# Altium integrated library Ahristi_Library.IntLib: 312 symbols (part 2 of 3)
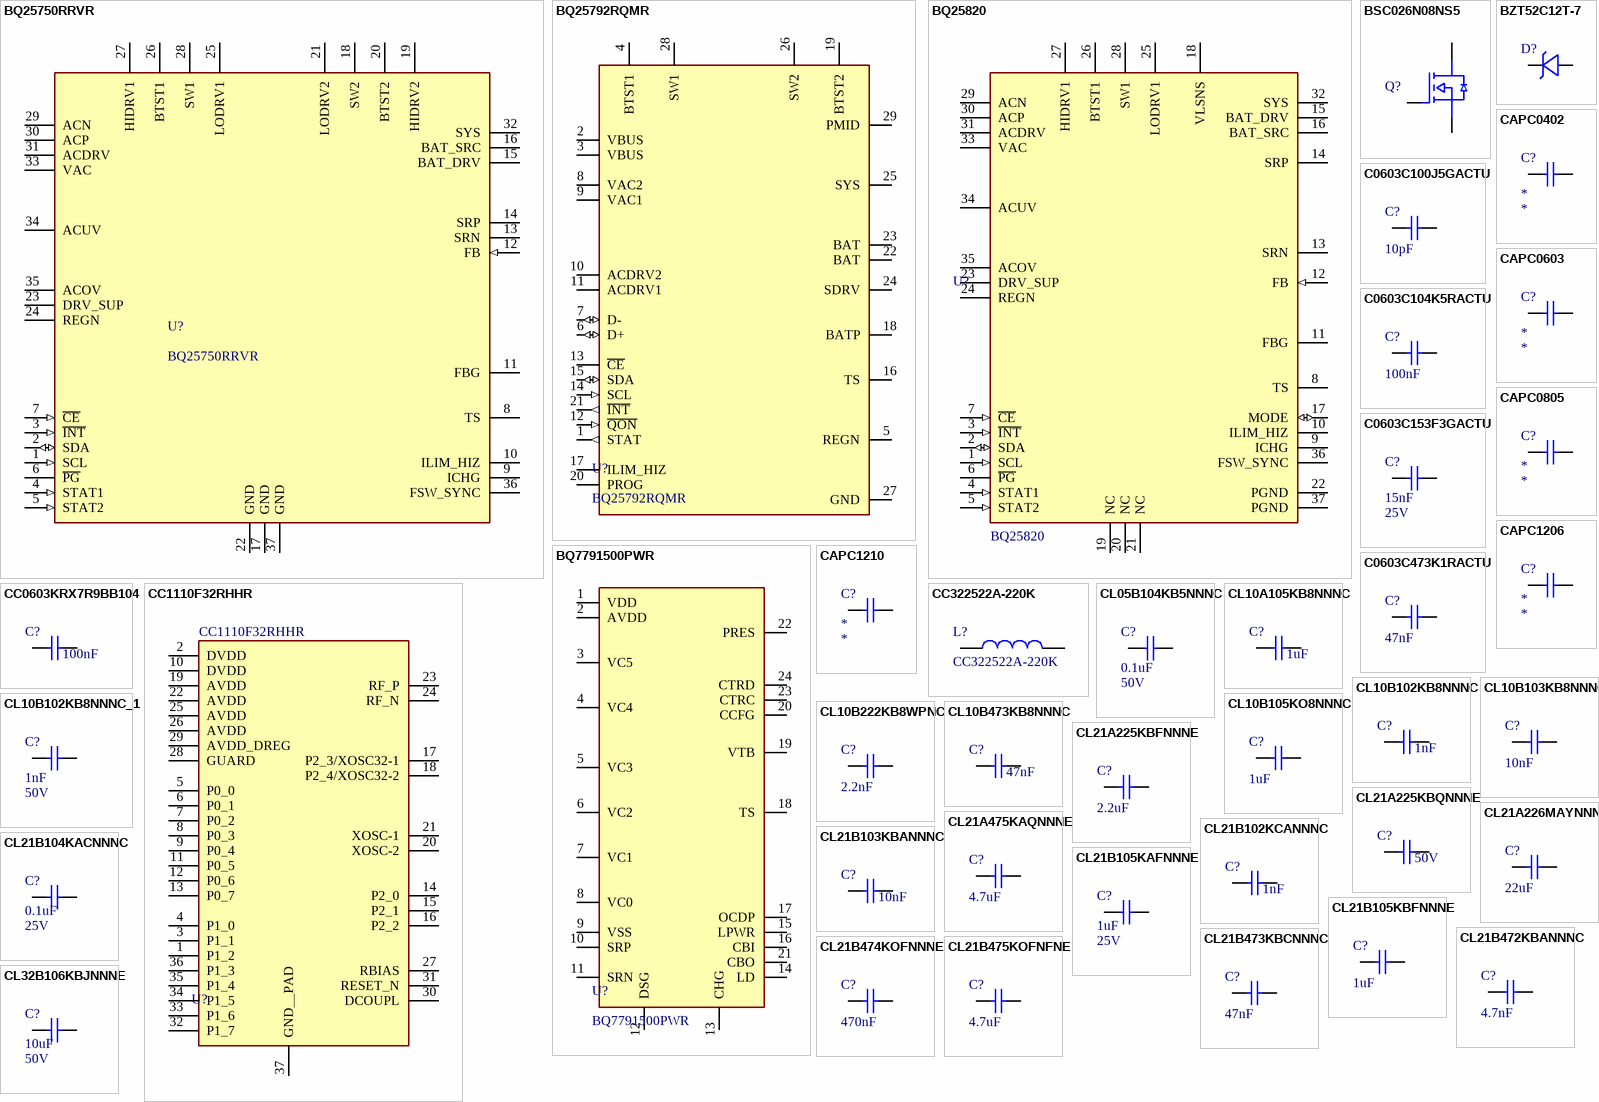
[diagram p9: symbols BQ25750RRVR to CL32B106KBJNNNE]

## CL21A226MAYNNNE
designator C?  Capacitance: 22uF  (hidden comment: CL21A226MAYNNNE)
22 µF ±20% 25V Ceramic Capacitor X5R 0805 (2012 Metric); Tolerance: 10%; Part Number: CL21A226MAYNNNE; Distributor Part Number: 1276-CL21A226MAYNNNECT-ND; Case Code: 0805; Distributor: Digikey; Voltage Rating: 25V
footprint CAPC0805X060 (Chip Capacitor, 2-Leads, Body 1.00x0.50mm, IPC Medium Density)
footprint CAPC0805X085 (Chip Resistor, 2-Leads, Body 2.00x1.25mm, IPC Medium Density)
footprint CAPC0805X125 (Chip Resistor, 2-Leads, Body 2.00x1.25mm, IPC Medium Density)
footprint CAPC0805X135 (Chip Capacitor, 2-Leads, Body 1.00x0.50mm, IPC Medium Density)
pins: 1, 2

## CL21A475KAQNNNE
designator C?  Capacitance: 4.7uF  (hidden comment: CL21A475KAQNNNE)
4.7 µF ±10% 25V Ceramic Capacitor X5R 0805 (2012 Metric); Part Number: CL21A475KAQNNNE; Distributor Part Number: 1276-1244-1-ND; Tolerance: 10%; Case Code: 0805; Distributor: Digikey; Voltage Rating: 25V
footprint CAPC0805X060 (Chip Capacitor, 2-Leads, Body 1.00x0.50mm, IPC Medium Density)
footprint CAPC0805X085 (Chip Resistor, 2-Leads, Body 2.00x1.25mm, IPC Medium Density)
footprint CAPC0805X125 (Chip Resistor, 2-Leads, Body 2.00x1.25mm, IPC Medium Density)
footprint CAPC0805X135 (Chip Capacitor, 2-Leads, Body 1.00x0.50mm, IPC Medium Density)
simulation model C_Capacitor_Default (Model Description)
pins: 1, 2

## CL21B102KCANNNC
designator C?  Capacitance: 1nF  (hidden comment: CL21B102KCANNNC)
1000 pF ±10% 100V Ceramic Capacitor X7R 0805 (2012 Metric); Voltage Rating: 25V; Part Number: CL21B102KCANNNC; Distributor Part Number: 1276-1169-1-ND; Tolerance: 10%; Case Code: 0805; Distributor: Digikey
footprint CAPC0805X060 (Chip Capacitor, 2-Leads, Body 1.00x0.50mm, IPC Medium Density)
footprint CAPC0805X085 (Chip Resistor, 2-Leads, Body 2.00x1.25mm, IPC Medium Density)
footprint CAPC0805X125 (Chip Resistor, 2-Leads, Body 2.00x1.25mm, IPC Medium Density)
footprint CAPC0805X135 (Chip Capacitor, 2-Leads, Body 1.00x0.50mm, IPC Medium Density)
pins: 1, 2

## CL21B103KBANNNC
designator C?  Capacitance: 10nF  (hidden comment: CL21B103KBANNNC)
10nF ±10% 50V Ceramic Capacitor X7R 0805 (2012 Metric); Voltage Rating: 25V; Part Number: CL21B103KBANNNC; Distributor Part Number: 1276-1015-1-ND; Tolerance: 10%; Case Code: 0805; Distributor: Digikey
footprint CAPC0805X060 (Chip Capacitor, 2-Leads, Body 1.00x0.50mm, IPC Medium Density)
footprint CAPC0805X085 (Chip Resistor, 2-Leads, Body 2.00x1.25mm, IPC Medium Density)
footprint CAPC0805X125 (Chip Resistor, 2-Leads, Body 2.00x1.25mm, IPC Medium Density)
footprint CAPC0805X135 (Chip Capacitor, 2-Leads, Body 1.00x0.50mm, IPC Medium Density)
pins: 1, 2

## CL21B104KACNNNC
designator C?  Voltage Rating: 25V  Capacitance: 0.1uF  (hidden comment: CL21B104KACNNNC)
0.1uF ±10% 25V Ceramic Capacitor X7R 0805 (2012 Metric); Part Number: CL21B104KACNNNC; Distributor Part Number: 1276-1099-1-ND; Tolerance: 10%; Case Code: 0805; Distributor: Digikey
footprint CAPC0805X060 (Chip Capacitor, 2-Leads, Body 1.00x0.50mm, IPC Medium Density)
footprint CAPC0805X085 (Chip Resistor, 2-Leads, Body 2.00x1.25mm, IPC Medium Density)
footprint CAPC0805X125 (Chip Resistor, 2-Leads, Body 2.00x1.25mm, IPC Medium Density)
footprint CAPC0805X135 (Chip Capacitor, 2-Leads, Body 1.00x0.50mm, IPC Medium Density)
pins: 1, 2

## CL21B105KAFNNNE
designator C?  Voltage Rating: 25V  Capacitance: 1uF  (hidden comment: CL21B105KAFNNNE)
1uF ±10% 25V Ceramic Capacitor X7R 0805 (2012 Metric); Part Number: CL21B105KAFNNNE; Distributor Part Number: 1276-1066-1-ND; Tolerance: 10%; Case Code: 0805; Distributor: Digikey
footprint CAPC0805X060 (Chip Capacitor, 2-Leads, Body 1.00x0.50mm, IPC Medium Density)
footprint CAPC0805X085 (Chip Resistor, 2-Leads, Body 2.00x1.25mm, IPC Medium Density)
footprint CAPC0805X125 (Chip Resistor, 2-Leads, Body 2.00x1.25mm, IPC Medium Density)
footprint CAPC0805X135 (Chip Capacitor, 2-Leads, Body 1.00x0.50mm, IPC Medium Density)
pins: 1, 2

## CL21B105KBFNNNE
designator C?  Capacitance: 1uF  (hidden comment: CL21B105KBFNNNE)
1uF 50V X7R ±10% 0805 Multilayer Ceramic Capacitors MLCC - SMD/SMT ROHS; Part Number: CL21B105KBFNNNE; Distributor Part Number: 1276-1029-1-ND; Tolerance: 10%; Case Code: 0805; Distributor: Digikey; Voltage Rating: 50V
footprint CAPC0805X060 (Chip Capacitor, 2-Leads, Body 1.00x0.50mm, IPC Medium Density)
footprint CAPC0805X085 (Chip Resistor, 2-Leads, Body 2.00x1.25mm, IPC Medium Density)
footprint CAPC0805X125 (Chip Resistor, 2-Leads, Body 2.00x1.25mm, IPC Medium Density)
footprint CAPC0805X135 (Chip Capacitor, 2-Leads, Body 1.00x0.50mm, IPC Medium Density)
pins: 1, 2

## CL21B472KBANNNC
designator C?, comment Capacitance: 4.7nF  (hidden comment: CL21B105KAFNNNE)
4.7nF ±10% 50V Ceramic Capacitor X7R 0805 (2012 Metric); Part Number: CL21B472KBANNNC; Voltage Rating: 25V; Distributor Part Number: 1276-1155-1-ND; Tolerance: 10%; Case Code: 0805; Distributor: Digikey
footprint CAPC0805X060 (Chip Capacitor, 2-Leads, Body 1.00x0.50mm, IPC Medium Density)
footprint CAPC0805X085 (Chip Resistor, 2-Leads, Body 2.00x1.25mm, IPC Medium Density)
footprint CAPC0805X125 (Chip Resistor, 2-Leads, Body 2.00x1.25mm, IPC Medium Density)
footprint CAPC0805X135 (Chip Capacitor, 2-Leads, Body 1.00x0.50mm, IPC Medium Density)
pins: 1, 2

## CL21B473KBCNNNC
designator C?  Capacitance: 47nF  (hidden comment: CL21B473KBCNNNC)
0.047 µF ±10% 50V Ceramic Capacitor X7R 0805 (2012 Metric); Voltage Rating: 25V; Part Number: CL21B473KBCNNNC; Distributor Part Number: 1276-1250-1-ND; Tolerance: 10%; Case Code: 0805; Distributor: Digikey
footprint CAPC0805X060 (Chip Capacitor, 2-Leads, Body 1.00x0.50mm, IPC Medium Density)
footprint CAPC0805X085 (Chip Resistor, 2-Leads, Body 2.00x1.25mm, IPC Medium Density)
footprint CAPC0805X125 (Chip Resistor, 2-Leads, Body 2.00x1.25mm, IPC Medium Density)
footprint CAPC0805X135 (Chip Capacitor, 2-Leads, Body 1.00x0.50mm, IPC Medium Density)
pins: 1, 2

## CL21B474KOFNNNE
designator C?  Capacitance: 470nF  (hidden comment: CL21B474KOFNNNE)
0.47 µF ±10% 16V Ceramic Capacitor X7R 0805 (2012 Metric); Voltage Rating: 25V; Part Number: CL21B474KOFNNNE; Distributor Part Number: 1276-1199-1-ND; Tolerance: 10%; Case Code: 0805; Distributor: Digikey
footprint CAPC0805X060 (Chip Capacitor, 2-Leads, Body 1.00x0.50mm, IPC Medium Density)
footprint CAPC0805X085 (Chip Resistor, 2-Leads, Body 2.00x1.25mm, IPC Medium Density)
footprint CAPC0805X125 (Chip Resistor, 2-Leads, Body 2.00x1.25mm, IPC Medium Density)
footprint CAPC0805X135 (Chip Capacitor, 2-Leads, Body 1.00x0.50mm, IPC Medium Density)
pins: 1, 2

## CL21B475KOFNFNE
designator C?  Capacitance: 4.7uF  (hidden comment: CL21B475KOFNFNE)
4.7 µF ±10% 16V Ceramic Capacitor X7R 0805 (2012 Metric); Part Number: CL21B475KOFNFNE; Distributor Part Number: 1276-2970-1-ND; Tolerance: 10%; Case Code: 0805; Distributor: Digikey; Voltage Rating: 16V
footprint CAPC0805X060 (Chip Capacitor, 2-Leads, Body 1.00x0.50mm, IPC Medium Density)
footprint CAPC0805X085 (Chip Resistor, 2-Leads, Body 2.00x1.25mm, IPC Medium Density)
footprint CAPC0805X125 (Chip Resistor, 2-Leads, Body 2.00x1.25mm, IPC Medium Density)
footprint CAPC0805X135 (Chip Capacitor, 2-Leads, Body 1.00x0.50mm, IPC Medium Density)
pins: 1, 2

## CL32B106KBJNNNE
designator C?  Voltage Rating: 50V  Capacitance: 10uF  (hidden comment: CL32B106KBJNNNE)
10 µF ±10% 50V Ceramic Capacitor X7R 1210 (3225 Metric); Manufacturer Part Number: CL32B106KBJNNNE; Distributor Part Number: 1276-3387-1-ND; Tolerance: 10%; Case Code: 1210; Distributor: Digikey
footprint CAPC1210X090 (1210 Ceramic Capacitor)
footprint CAPC1210X115 (1210 Ceramic Capacitor)
footprint CAPC1210X140 (1210 Ceramic Capacitor)
footprint CAPC1210X170 (1210 Ceramic Capacitor)
footprint CAPC1210X190 (1210 Ceramic Capacitor)
pins: 1, 2

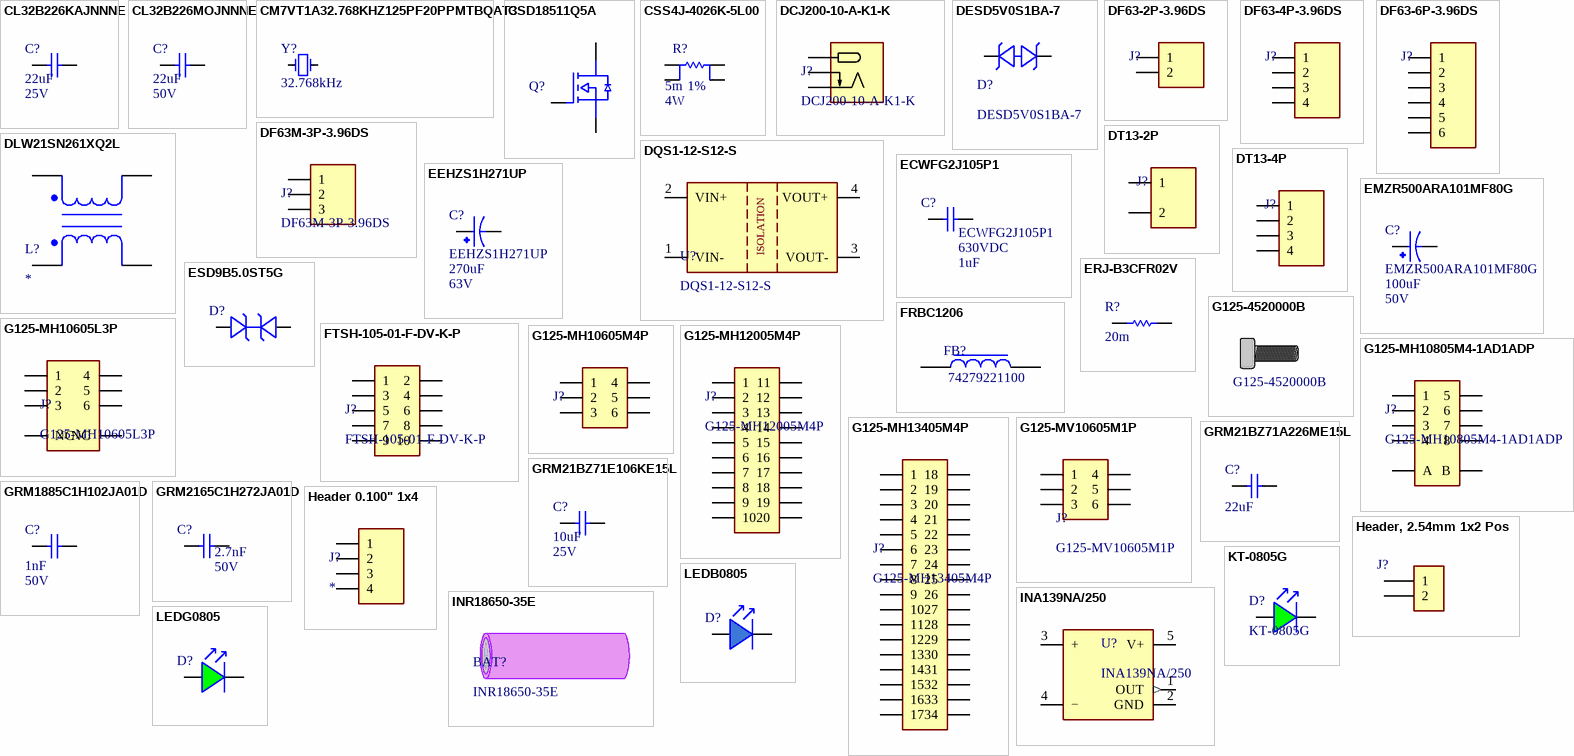
[diagram p3: symbols CL32B226KAJNNNE to LEDG0805]

## CL32B226KAJNNNE
designator C?  Voltage Rating: 25V  Capacitance: 22uF  (hidden comment: CL32B226KAJNNNE)
22 µF ±10% 25V Ceramic Capacitor X7R 1210 (3225 Metric); Part Number: CL32B226KAJNNNE; Distributor Part Number: 1276-3392-1-ND; Tolerance: 10%; Case Code: 1210; Distributor: Digikey
footprint CAPC1210X090 (1210 Ceramic Capacitor)
footprint CAPC1210X115 (1210 Ceramic Capacitor)
footprint CAPC1210X140 (1210 Ceramic Capacitor)
footprint CAPC1210X170 (1210 Ceramic Capacitor)
footprint CAPC1210X190 (1210 Ceramic Capacitor)
pins: 1, 2

## CL32B226MOJNNNE
designator C?  Voltage Rating: 50V  Capacitance: 22uF  (hidden comment: CL32B226MOJNNNE)
22 µF ±20% 16V Ceramic Capacitor X7R 1210 (3225 Metric); Tolerance: 10%; Part Number: CL32B226MOJNNNE; Distributor Part Number: 1276-3395-1-ND; Case Code: 1210; Distributor: Digikey
footprint CAPC1210X090 (1210 Ceramic Capacitor)
footprint CAPC1210X115 (1210 Ceramic Capacitor)
footprint CAPC1210X140 (1210 Ceramic Capacitor)
footprint CAPC1210X170 (1210 Ceramic Capacitor)
footprint CAPC1210X190 (1210 Ceramic Capacitor)
pins: 1, 2

## CM7VT1A32.768KHZ125PF20PPMTBQAT3
designator Y?  Frequency: 32.768kHz  (hidden comment: CM7VT1A32.768KHZ125PF20PPMTBQAT3)
CRYSTAL 32.7680KHZ 12.5PF SMD; Qualification: AEC-Q200; ESR: 70kohm; Part Number: CM7VT1A32.768KHZ125PF20PPMTBQAT3; Distributor Part Number: 2195-CM7VT1A32.768KHZ125PF20PPMTBQAT3CT-ND; Distributor: Digikey; Operating Temperature: -40°C ~ 125°C; Load Capacitance: 12.5pF
footprint CM7VT1A32.768KHZ125PF20PPMTBQAT3 (SMD-2 Crystal)
pins: 1 OSC1, 2 OSC2

## CSD18511Q5A
designator Q?  (value not drawn)
40-V, N channel NexFET™ power MOSFET, single SON 5 mm x 6 mm, 2.3 mOhm; Vgs (Max): 20; Vds (Max): 40V; Qg: 63nC; Qgd: 11.2nC; Vth: 1.8; Id: 27A; Power Dissipation (Max): 104W; Continuous Drain Current @ 25C: 159A; Part Number: CSD18511Q5A; Distributor Part Number: 296-48119-1-ND; Operating Temperature: -55°C ~ 150°C
footprint CSD18511Q5A (40-V, N channel NexFET™ power MOSFET, single SON 5 mm x 6 mm, 2.3 mOhm)
pins: 1 G, 2 D, 3 S

## CSS4J-4026K-5L00
designator R?  Resistance: 5m  Power Dissipation: 4W  Tolerance: 1%  (hidden comment: *)
5 mOhms ±1% 3W Chip Resistor Nonstandard Automotive AEC-Q200, Current Sense Metal Element; Manufacturer Part Number: CSS4J-4026K-5L00; Distributor Part Number: *
footprint CSS4J-4026K-5L00 (5 mOhms ±1% 3W Chip Resistor Nonstandard Automotive AEC-Q200, Current Sense Metal Element)
pins: I1, I2, S1, S2

## DCJ200-10-A-K1-K
designator J?
Power Barrel Connector Jack 2.05mm ID (0.081"), 5.50mm OD (0.217") Through Hole, Right Angle; Voltage Rating: 20VDC; Current Ratnig: 5A; Part Number: DCJ200-10-A-K1-K; Distributor: Digikey; Distributor Part Number: 2073-DCJ200-10-A-K1-K-ND; Operating Temperature: -20°C ~ 70°C
footprint DCJ200-10-A-K1-K (Power Barrel Connector Jack 2.05mm ID (0.081"), 5.50mm OD (0.217") Through Hole, Right Angle)
pins: 1 V+, 2 V-, 3 V-

## DESD5V0S1BA-7
designator D?
Diode TVS 5V Reverse Standoff 14V Clamp SOD323; Capacitance @ 1MHz: 35pF; Part Number: DESD5V0S1BA-7; Distributor: *; Distributor Part Number: *; Operating Temperature: -65C ~ 150C
footprint DESD5V0S1BA (DESD5V0S1BA SOD323)
pins: 1, 2

## DF63-2P-3.96DS
designator J?
Connector through hole, right angle 2 position 3.96mm,; Manufacturer Part Number: DF63-2P-3.96DS; Manufacutrer: Hirose; Voltage Rating: 630V; Number of Positions: 2; Pin Current Rating: 15A; Operating Temperature: -50°C~105°C
footprint DF63-2P-3.96DS (Conn Wire to Board HDR 4 POS 3.96mm Solder RA Thru-Hole 2 Terminal 1 Port Bag)
pins: 1, 2

## DF63-4P-3.96DS
designator J?
Connector through hole, right angle 4 position 3.96mm,; Manufacturer Part Number: DF63-4P-3.96DS; Manufacutrer: Hirose; Voltage Rating: 630V; Number of Positions: 4; Pin Current Rating: 15A; Operating Temperature: -50°C~105°C
footprint DF63-4P-3.96DS (Conn Wire to Board HDR 4 POS 3.96mm Solder RA Thru-Hole 4 Terminal 1 Port Bag)
pins: 1, 2, 3, 4

## DF63-6P-3.96DS
designator J?
Connector through hole, right angle 6 position 3.96mm,; Manufacturer Part Number: DF63-6P-3.96DS; Manufacutrer: Hirose; Voltage Rating: 630V; Number of Positions: 6; Pin Current Rating: 15A; Operating Temperature: -50°C~105°C
footprint DF63-6P-3.96DS (Connector Header Through Hole, Right Angle 6 position 0.156" (3.96mm))
pins: 1, 2, 3, 4, 5, 6

## DF63M-3P-3.96DS
designator J?
Connector Header Through Hole, Right Angle 3 position 0.156" (3.96mm); Number of Positions: 3; Current Rating: 12A; Voltage Rating: 630V; Part Number: DF63M-3P-3.96DS; Number of Rows: 1
footprint DF63M-3P-3.96DS (Connector Header Through Hole, Right Angle 3 position 0.156" (3.96mm))
pins: 1, 2, 3

## DLW21SN261XQ2L
designator L?
Part Number: DLW21SN261XQ2L; Distributor: Digikey; Distributor Part Number: *
footprint DLW21SN261XQ2L (Common Mode Chokes / Filters 260 OHM 25%)
pins: 1, 2, 3, 4

## DQS1-12-S12-S
designator U?
12 Vdc, 0.084 A, 1 W, 12 Vdc Input Range; Voltage - Input (Min): 10.8V; Voltage - Input (Max): 13.2; Voltage - Output 1: 12V; Power (W): 1W; Isolation Voltage: 1kV; Part Number: DQS1-12-S12-S; ComponentLink1Description: Datasheet; ComponentLink1URL: https://www.belfuse.com/media/datasheets/products/power-supplies/DQS1-S.pdf
footprint DQS1-12-S12-S (DC-DC ISOLATED, 1W, 10.8~13.2 VD)
pins: 1 VIN-, 2 VIN+, 3 VOUT-, 4 VOUT+
text: ISOLATION

## DT13-2P
designator J?
PCB Header, Vertical, PCB Mount Header, Contacts 2, Gray, Nickel, DT Series | TE Connectivity DT13-2P; Rows: 1; Positions: 2; Max Current: 13A; Manufacturer Part Number: DT13-2P; Distributor Part Number: *
footprint DT13-2P
pins: 1, 2

## DT13-4P
designator J?
DT13 Series 4.44mm Pitch 4 Way 2 Row Right Angle PCB Header Solder Termination | TE Connectivity DT13-4P; Rows: 2; Positions: 4; Max Current: 13A; Manufacturer Part Number: DT13-4P; Distributor Part Number: *
footprint DT13-4P (DT13 Series 4.44mm Pitch 4 Way 2 Row Right Angle PCB Header Solder Termination)
pins: 1, 2, 3, 4

## ECWFG2J105P1
designator C?  Capacitance: 1uF  Voltage Rating: 630VDC  Manufacturer Part Number: ECWFG2J105P1
Film Capacitors 630VDC 1.0uF 5% ST LEAD AEC-Q200; Distributor Part Number: *; Tolerance: 5%; Qualification: AEC-Q200
footprint ECWFG2J105P1 (1F Film Capacitor 141V 630V Polypropylene (PP), Metallized Radial)
pins: 1, 2

## EEHZS1H271UP
designator C?  Voltage Rating: 63V  Capacitance: 270uF  Manufacturer Part Number: EEHZS1H271UP
270 µF 50 V Aluminum - Polymer Capacitors Radial, Can - SMD 13mOhm 4000 Hrs @ 125°C
footprint EEHZS1H271UP (270 µF 50 V Aluminum - Polymer Capacitors Radial, Can - SMD 13mOhm 4000 Hrs @ 125°C)
pins: 1, 2

## EMZR500ARA101MF80G
designator C?  Voltage Rating: 50V  Capacitance: 100uF  (hidden comment: EMZR500ARA101MF80G)
100 µF 50 V Aluminum Electrolytic Capacitors Radial, Can - SMD 340mOhm @ 100kHz 2000 Hrs @ 105°C; Distributor: Digikey; Distributor Part Number: 565-EMZR500ARA101MF80GCT-ND; Manufacturer Part Number: EMZR500ARA101MF80G
footprint EMZR500ARA101MF80G (6.6mm Radial Capacitor)
pins: 1, 2

## ERJ-B3CFR02V
designator R?  Resistance: 20m
Res Thick Film 0508 20m Ohm 1% 1/2W 0ppm/°C to 300ppm/°C Molded SMD Punched Paper T/R; Manufacturer Part Number: ERJ-B3CFR02V; Power Rating: 500mW; Tolerance: 1%; Package: 0508
footprint RESC0508REVERSED
pins: 1, 2

## ESD9B5.0ST5G
designator D?  (value not drawn)
TVS Diode 5VWM 1A, 12.5V@1A Ipp; Voltage - Reverse Standoff (Max): 5V; Voltage - Breakdown: 5.8V; Part Number: ESD9B5.0ST5G; Distributor: Digikey; Distributor part Number: ESD9B5.0ST5G; Operating Temperature: -55°C ~ 150°C (TJ)
footprint sod-923 (SOD-923 Onsemi Footprint)
pins: 1, 2

## FRBC1206
designator FB?  Manufacturer Part Number: 74279221100  (hidden comment: *)
Ferrite Bead 1206 (3216 Metric); Distributor Part Number: *
footprint FRBC1206
pins: 1, 2

## FTSH-105-01-F-DV-K-P
designator J?
Connector Header Surface Mount 10 position 0.050" (1.27mm); Number of Positions: 10; Current Rating: 3.4A; Part Number: FTSH-105-01-F-DV-K-P; Distributor: Digikey; Distributor Part Number: SAM8797-ND; Number of Rows: 2; Operating Temperature: -55°C ~ 125°C
footprint FTSH-105-01-F-DV-K-P-TR (0.050" Surface Mount Header)
pins: 1, 2, 3, 4, 5, 6, 7, 8, 9, 10

## G125-4520000B
designator MECH?
Harwin Gecko M2 board mount Screw-Lok Bolt; Part Number: G125-4520000B; Distributor: Digikey; Distributor Part Number: 952-G125-4520000B-ND
footprint G125-4520000B (M2 Bolt Gecko Screwlok)

## G125-MH10605L3P
designator J?
Connector Header Through Hole 6 Position 1.25mm Latch Lock; Current Rating: 2A; Voltage Rating: 250V; Number of Positions: 6; Part Number: G125-MH10605L3P; Distributor: *; Distributor Part Number: *; Operating Temperature: -65°C ~ 150°C; Number of Rows: 2
footprint G125-MH10605L3P (Harwin Gecko 6 Pin Right Angle Latch)
pins: 1, 2, 3, 4, 5, 6, NC1 NC, NC2 NC

## G125-MH10605M4P
designator J?  (value not drawn)
Connector Header Through Hole, Right Angle 6 position 0.049" (1.25mm); Manufacturer: Harwin; Temperature Rating: -65°C ~ 150°C; Current Rating: 2A; Voltage Rating: 450V; Number of Positions: 6; Part number: G125-MH10605M4P; Distributor Part Number: 952-G125-MH10605M4P-ND; Distributor: Digikey; Number of Rows: 2
footprint G125-MH10605M4P
pins: 1, 2, 3, 4, 5, 6

## G125-MH10805M4-1AD1ADP
designator J?
Connector Header Through Hole, Right Angle 10 (8 + 2 Power) position 0.049" (1.25mm); Voltage Rating: 450V; Current Rating (Power): 10A; Current Rating (Signal): 2A; Number of Positions (Signal): 8; Part Number: G125-MH10805M4-1AD1ADP; Distributor: Digikey; Distributor Part Number: 952-G125-MH10805M4-1AD1ADP-ND; Operating Temperature: -65°C ~ 150°C; Number of Positions (Power): 2A
footprint G125-MH10805M4-1AD1ADP (Harwin Gecko 8 Signal 2 P{ower)
pins: 1, 2, 3, 4, 5, 6, 7, 8, A, B

## G125-MH12005M4P
designator J?
Connector Header Through Hole, Right Angle 20 position 0.049" (1.25mm); Manufacturer: Harwin; Number of Positions: 20; Voltage Rating: 450V; Current Rating: 2A; Part Number: G125-MH12005M4P; Distributor: Digikey; Distributor Part Number: 952-G125-MH12005M4P-ND; Number of Rows: 2; Operating Temperature: -65°C ~ 150°C
footprint G125-MH12005M4P (Harwin Gecko 20pin Right Angle)
pins: 1, 2, 3, 4, 5, 6, 7, 8, 9, 10, 11, 12, 13, 14, 15, 16, 17, 18, 19, 20

## G125-MH13405M4P
designator J?
Connector Header Through Hole, Right Angle 34 position 0.049" (1.25mm); Voltage Rating: 450V; Current Rating: 2A; Number of Positions: 34; Part Number: G125-MH13405M4P; Distributor: *; Distributor Part Number: *; Operating Temperature: -65°C ~ 150°C; Number of Rows: 2
footprint G125-MH13405M4P (Harwin Gecko 34pin Right Angle)
pins: 1, 2, 3, 4, 5, 6, 7, 8, 9, 10, 11, 12, 13, 14, 15, 16, 17, 18, 19, 20, 21, 22, 23, 24, 25, 26, 27, 28, 29, 30, 31, 32, 33, 34

## G125-MV10605M1P
designator J?
Connector Header Through Hole 6 Position 1.25mm Screw Lock; Manufacturer: Harwin; Number of Row: 2; Number of Positions: 3; Voltage Rating: 450V; Operating Temperature: -65C ~ 150C
footprint G125-MV10605M1P (Harwin Gecko 6 Pin)
pins: 1, 2, 3, 4, 5, 6

## GRM21BZ71A226ME15L
designator C?  Capacitance: 22uF  (hidden comment: GRM21BZ71A226ME15L)
22 µF ±20% 10V Ceramic Capacitor X7R 0805 (2012 Metric); Tolerance: 10%; Part Number: GRM21BZ71A226ME15L; Distributor Part Number: 490-GRM21BZ71A226ME15LCT-ND; Case Code: 0805; Distributor: Digikey; Voltage Rating: 10V
footprint CAPC0805X060 (Chip Capacitor, 2-Leads, Body 1.00x0.50mm, IPC Medium Density)
footprint CAPC0805X085 (Chip Resistor, 2-Leads, Body 2.00x1.25mm, IPC Medium Density)
footprint CAPC0805X125 (Chip Resistor, 2-Leads, Body 2.00x1.25mm, IPC Medium Density)
footprint CAPC0805X135 (Chip Capacitor, 2-Leads, Body 1.00x0.50mm, IPC Medium Density)
pins: 1, 2

## GRM21BZ71E106KE15L
designator C?  Voltage Rating: 25V  Capacitance: 10uF  (hidden comment: GRM21BZ71E106KE15L)
10uF ±10% 25V Ceramic Capacitor X7R 0805 (2012 Metric); Manufacturer Part Number: GRM21BZ71E106KE15L; Distributor Part Number: 490-GRM21BZ71E106KE15LCT-ND; Tolerance: 10%; Case Code: 0805; Distributor: Digikey
footprint CAPC0805X060 (Chip Capacitor, 2-Leads, Body 1.00x0.50mm, IPC Medium Density)
footprint CAPC0805X085 (Chip Resistor, 2-Leads, Body 2.00x1.25mm, IPC Medium Density)
footprint CAPC0805X125 (Chip Resistor, 2-Leads, Body 2.00x1.25mm, IPC Medium Density)
footprint CAPC0805X135 (Chip Capacitor, 2-Leads, Body 1.00x0.50mm, IPC Medium Density)
pins: 1, 2

## GRM1885C1H102JA01D
designator C?  Voltage Rating: 50V  Capacitance: 1nF  (hidden comment: GRM1885C1H102JA01D)
1nF ±5% 50V Ceramic Capacitor C0G, NP0 0603 (1608 Metric); Part Number: GRM1885C1H102JA01D; Tolerance: 5%; Distributor Part number: 490-1451-1-ND; Case Code: 0603; Distributor: Digikey; Dielectric: C0G
footprint CAPC0603X040 (Chip Capacitor, 2-Leads, Body 1.60x0.80mm, IPC Medium Density)
footprint CAPC0603X060 (Chip Capacitor, 2-Leads, Body 1.60x0.80mm, IPC Medium Density)
footprint CAPC0603X070 (Chip Capacitor, 2-Leads, Body 1.60x0.80mm, IPC Medium Density)
footprint CAPC0603X080 (Chip Capacitor, 2-Leads, Body 1.60x0.80mm, IPC Medium Density)
footprint CAPC0603X090 (Chip Capacitor, 2-Leads, Body 1.60x0.80mm, IPC Medium Density)
pins: 1, 2

## GRM2165C1H272JA01D
designator C?  Voltage Rating: 50V  Capacitance: 2.7nF  (hidden comment: GRM2165C1H272JA01D)
2.7nF ±5% 50V Ceramic Capacitor C0G, NP0 0805 (2012 Metric); Manufacturer Part Number: GRM2165C1H272JA01D; Distributor Part Number: 490-1630-1-ND; Tolerance: 5%; Case Code: 0805; Distributor: Digikey
footprint CAPC0805X060 (Chip Capacitor, 2-Leads, Body 1.00x0.50mm, IPC Medium Density)
footprint CAPC0805X085 (Chip Resistor, 2-Leads, Body 2.00x1.25mm, IPC Medium Density)
footprint CAPC0805X125 (Chip Resistor, 2-Leads, Body 2.00x1.25mm, IPC Medium Density)
footprint CAPC0805X135 (Chip Capacitor, 2-Leads, Body 1.00x0.50mm, IPC Medium Density)
pins: 1, 2

## Header 0.100" 1x4
designator J?
Generic 0.100" Header 1x4; Rows: 1; Contacts: 4
footprint GENERIC 0.100" HEADER 1x4 (Generic 1x4 0.1Inch Header)
pins: 1, 2, 3, 4

## Header, 2.54mm 1x2 Pos
designator J?
Generic 2.54mm, 1x2 header; Manufacturer Part Number: 61300211121; Rows: 1; Positions: 2
footprint Header 2.54mm 1x2 (2 pins, 1 row, 2.54mm spacing)
pins: 1, 2

## INA139NA/250
designator U?
40V Current Sense Amplifier 1 Circuit 8-MSOP; Accuracy: 0.5%; Distributor: Digikey; Distributor Part Number: INA139NA/250CT-ND; Operating Temperature: -40°C ~ 125°C; Part Number: INA139NA/250
footprint SOT23-5 IC (SOT23-5)
pins: 1 OUT (out), 2 GND, 3 +, 4 −, 5 V+

## INR18650-35E
designator BAT?  (mechanical)
Samsung 3500mAh 18650 Li-Ion battery; Continuous Current: 3.5A; Part Number: INR18650-35E; Distributor Part Number: SB2632; Distributor: Jaycar; Capacity: 3500mAh; Operating Temperature: 0°C to 50°C

## KT-0805G
designator D?
LED Green 0805 00mW 120° 2.6V~3.1V 430mcd 513nm~528nm 525nm 5mA; Part Number: KT-0805G; Distributor Part Number: C2297; Colour: Green; Operating Temperature: -40℃~+85℃; Distributor: JLCPCB
footprint LEDG_0805 (Generic Green LED 0805)
pins: A, K

## LEDB0805
designator D?
Generic Blue LED 0805; Manufacturer Part Number: *; Distributor Part Number: *; Colour: *; Operating Temperature: *
footprint LEDB_0805 (Generic bLUE LED 0805)
pins: A, K

## LEDG0805
designator D?
Generic Green LED 0805; Manufacturer Part Number: *; Distributor Part Number: *; Colour: *; Operating Temperature: *
footprint LEDG_0805 (Generic Green LED 0805)
pins: A, K

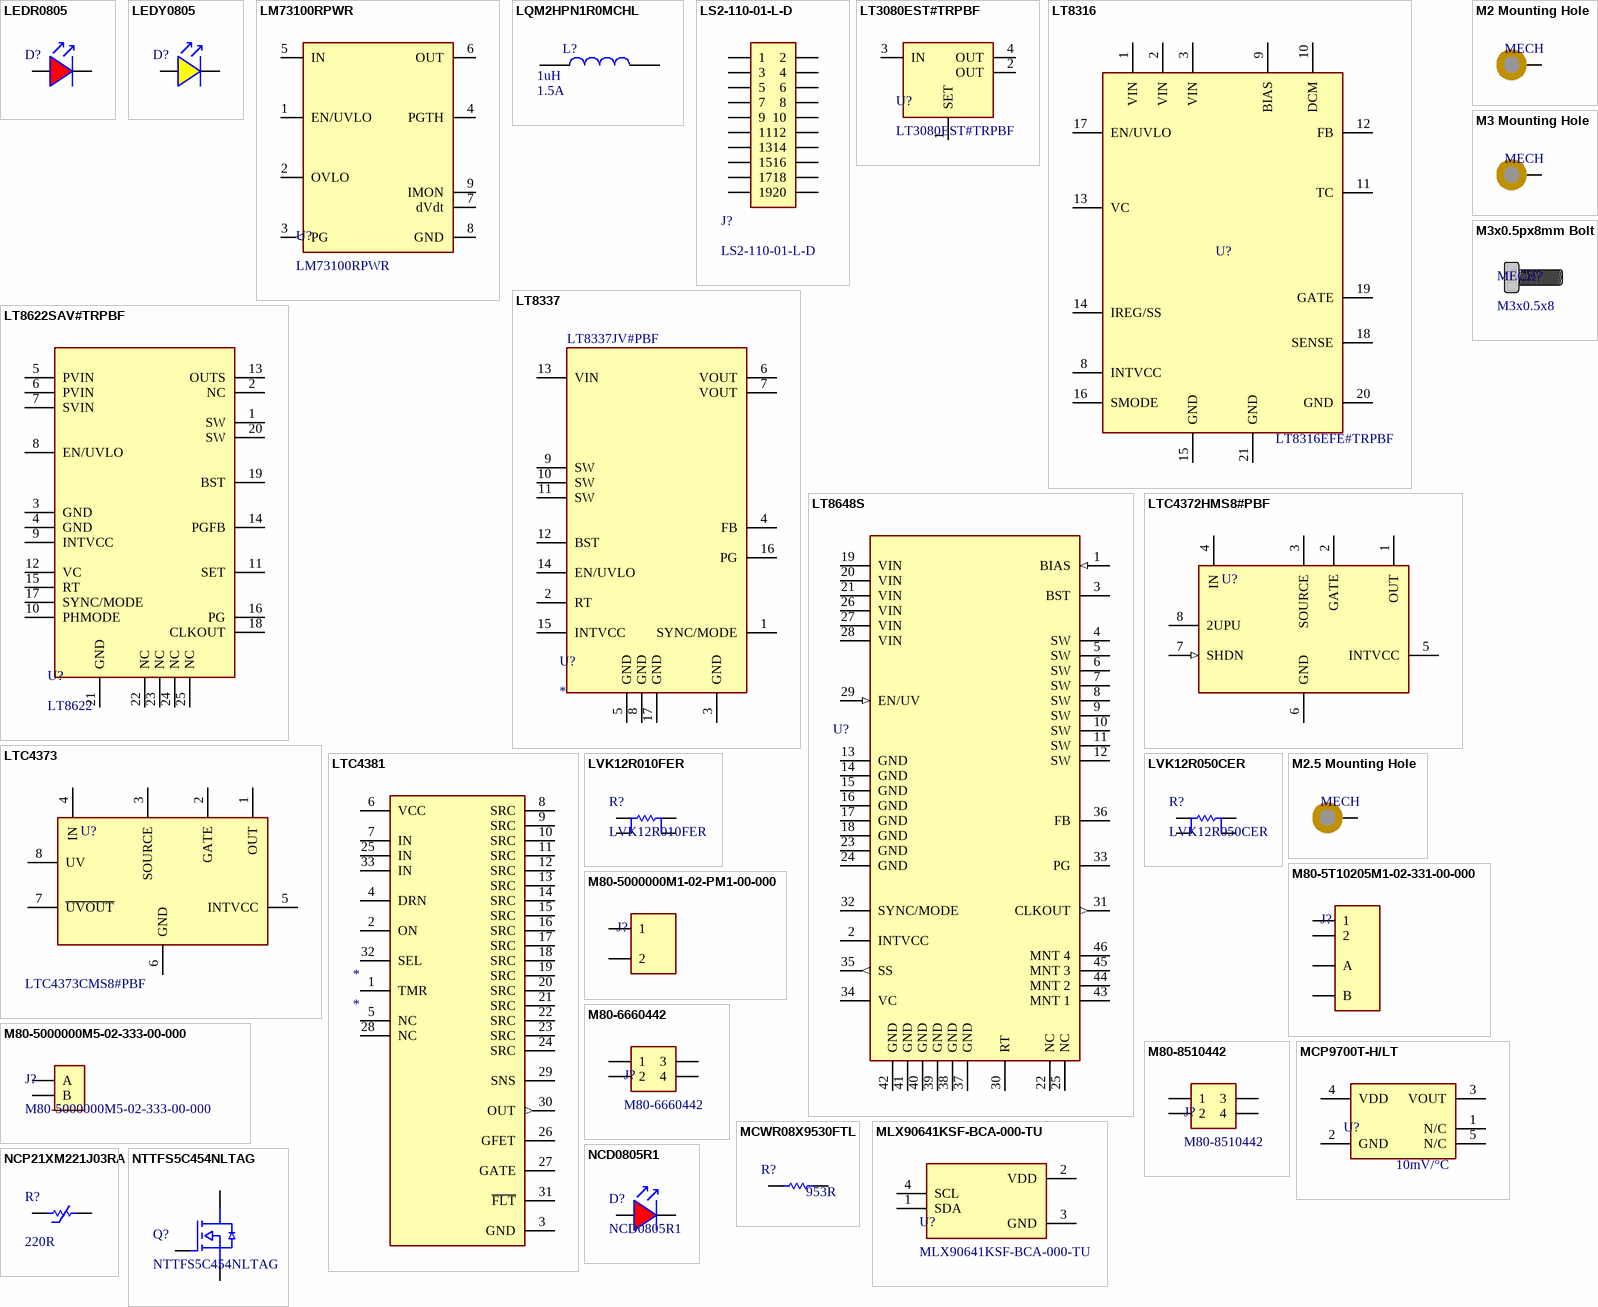
[diagram p4: symbols LEDR0805 to NTTFS5C454NLTAG]

## LEDR0805
designator D?
Generic Red LED 0805; Manufacturer Part Number: *; Distributor Part Number: *; Colour: *; Operating Temperature: *
footprint LEDR_0805 (Generic Red LED 0805)
pins: A, K

## LEDY0805
designator D?
Generic Yellow LED 0805; Manufacturer Part Number: *; Distributor Part Number: *; Colour: *; Operating Temperature: *
footprint LEDY_0805 (Generic Yellow LED 0805)
pins: A, K

## LM73100RPWR
designator U?
Ideal Diode 2.7 - 23 V, 5.5 A with Input Reverse Polarity and / Overvoltage Protection; Current Output: 5.5A; Voltage Supply: 2.7V ~ 23V; Part Number: LM73100RPWR; Distributor Part Number: 296-LM73100RPWRCT-ND; Distributor: Digikey; Operating Temperature: -40°C ~ 125°C (TJ)
footprint VFQFN-10 (TI VFQFN-10)
pins: 1 EN/UVLO, 2 OVLO, 3 PG (out), 4 PGTH, 5 IN, 6 OUT, 7 dVdt, 8 GND, 9 IMON

## LQM2HPN1R0MCHL
designator L?  Isat: 1.5A  Inductance: 1uH
1uH Tol. +/-20%, Package: 1008 (2520); Manufacturer Part Number: LQM2HPN1R0MCHL; DCR: 90mohm; Tolerance: 20%; ComponentLink1Description: Datasheet; ComponentLink1URL: *; Distributor Part Number: *
footprint LQM2HPN1R0MG0L (Inductor with Inductance: 1uH Tol. +/-20%, Package: 1008 (2520))
pins: 1, 2

## LS2-110-01-L-D
designator J?
Connector Self Mating 20 Position , Non-Gendered, Hermaphroditic Through Hole Gold; Number of Positions: 20; Contact Rating: 3.2A; Voltage Rating: 475VAC; Part Number: LS2-110-01-L-D; Distributor Part Number: SAM9665-ND; Distributor: Digikey; Number of Rows: 2; Operating Temperature: -55C ~ 125C
footprint LS2-110-01-L-D
pins: 1, 2, 3, 4, 5, 6, 7, 8, 9, 10, 11, 12, 13, 14, 15, 16, 17, 18, 19, 20

## LT3080EST#TRPBF
designator U?
Linear Voltage Regulator IC Positive Adjustable 1 Output 1.1A SOT-223-3; Voltage Input (Max): 36V; Voltage - Output (Min): 0V; Voltage Dropout (Max): 1.6V @ 1.1A; Part Number: LT3080EST#TRPBF; Voltage - Output (Max): 36V; Current - Output: 1.1A; Operating Temperature: -40C ~ 125C
footprint LT3080 (4-SOT-223)
pins: 1 SET, 2 OUT, 3 IN, 4 OUT

## LT8316
designator U?  Manufacturer Part Number: LT8316EFE#TRPBF
Buck, Boost, Flyback Regulator Positive Output Step-Up, Step-Down DC-DC Controller IC 20-TSSOP-EP
footprint LT8316
pins: 1 VIN, 2 VIN, 3 VIN, 8 INTVCC (oc), 9 BIAS (oc), 10 DCM (oc), 11 TC (oc), 12 FB (oc), 13 VC (oc), 14 IREG/SS (oc), 15 GND (oc), 16 SMODE (oc), 17 EN/UVLO (oc), 18 SENSE (oc), 19 GATE (oc), 20 GND (oc), 21 GND (oc)

## LT8337
designator U?  Manufacturer Part Number: LT8337JV#PBF
IC REG BOOST PROG 5A 16LQFN; Frequency - Switching: 300kHz-3MHz; Voltage - Input (Min): 2.7V; Voltage - Input (Max): 28V; Digikey Part Number: 505-LT8337JV#PBF-ND; Max Output Current: 5A; Operating Temperature: -40°C ~ 150°C (TJ); ComponentLink1Description: Datasheet; ComponentLink1URL: https://www.analog.com/media/en/technical-documentation/data-sheets/lt8337-8337-1.pdf
footprint LT8337 (IC REG BOOST PROG 5A 16LQFN)
pins: 1 SYNC/MODE, 2 RT, 3 GND, 4 FB, 5 GND, 6 VOUT, 7 VOUT, 8 GND, 9 SW, 10 SW, 11 SW, 12 BST, 13 VIN, 14 EN/UVLO, 15 INTVCC, 16 PG, 17 GND

## LT8622SAV#TRPBF
designator U?, comment LT8622
Switching Voltage Regulators 18V, 3A Synchronous Step-Down SW3; Part Number: LT83203RUDB#TRMPBF; Input Voltage: 2.7V ~ 18V; Output Voltage: 0V ~ Vin-0.5V; Output Current: 2A; Maximum Switching Frequency: 6MHz; Operating Temperature: -40C ~ 125C
footprint LT8622S (LT8622S - 20LQFN 4.0x3.0x0.94)
pins: 1 SW, 2 NC, 3 GND, 4 GND, 5 PVIN, 6 PVIN, 7 SVIN, 8 EN/UVLO, 9 INTVCC, 10 PHMODE, 11 SET, 12 VC, 13 OUTS, 14 PGFB, 15 RT, 16 PG, 17 SYNC/MODE, 18 CLKOUT, 19 BST, 20 SW, 21 GND, 22 NC, 23 NC, 24 NC, 25 NC

## LT8648S
designator U?
Switching Voltage Regulators 42V, 15A Synchronous Step-Down Silent Switcher 2; Manufacturer Part Number: LT8648S; Qualification: AEC-Q100; Package: 36-Lead 7mm × 4mm LQFN; Distributor Part Number: *
footprint LT8648S
pins: 1 BIAS (in), 2 INTVCC (power), 3 BST (power), 4 SW, 5 SW, 6 SW, 7 SW, 8 SW, 9 SW, 10 SW, 11 SW, 12 SW, 13 GND, 14 GND, 15 GND, 16 GND, 17 GND, 18 GND, 19 VIN (power), 20 VIN (power), 21 VIN (power), 22 NC, 23 GND, 24 GND, 25 NC, 26 VIN (power), 27 VIN (power), 28 VIN (power), 29 EN/UV (in), 30 RT, 31 CLKOUT (out), 32 SYNC/MODE, 33 PG (oc), 34 VC (power), 35 SS (out), 36 FB, 37 GND, 38 GND, 39 GND, 40 GND, 41 GND, 42 GND, 43 MNT 1, 44 MNT 2, 45 MNT 3, 46 MNT 4

## LTC4372HMS8#PBF
designator U?  (value not drawn)
Ideal Diode Controller, 8-lead MSOP SHDN; Manufacturer Part Number: LTC4373CMS8#PBF; Qualification: None; Voltage Supply: 2.5V ~ 80V; Distributor Part Number: 505-LTC4372HMS8#PBF-ND; Package: 8-Lead MSOP; Distributor: Digikey; Operating Temperature: -40°C ~ 125°C (TA)
footprint MS8-8LEAD
pins: 1 OUT, 2 GATE, 3 SOURCE, 4 IN, 5 INTVCC, 6 GND, 7 SHDN (in), 8 2UPU

## LTC4373
designator U?  Manufacturer Part Number: LTC4373CMS8#PBF
Ideal Diode Controller, 8-lead MSOP UV lockout; Qualification: None; Package: 8-Lead MSOP
footprint MS8-8LEAD
pins: 1 OUT, 2 GATE, 3 SOURCE, 4 IN, 5 INTVCC, 6 GND, 7 ~{UVOUT} (oc), 8 UV

## LTC4381
designator *
footprint LTC4381
pins: 1 TMR, 2 ON, 3 GND (power), 4 DRN, 5 NC, 6 VCC (power), 7 IN (power), 8 SRC, 9 SRC, 10 SRC, 11 SRC, 12 SRC, 13 SRC, 14 SRC, 15 SRC, 16 SRC, 17 SRC, 18 SRC, 19 SRC, 20 SRC, 21 SRC, 22 SRC, 23 SRC, 24 SRC, 25 IN (power), 26 GFET, 27 GATE, 28 NC, 29 SNS, 30 OUT (out), 31 ~{FLT}, 32 SEL, 33 IN (power)

## LVK12R010FER
designator R?
10 mOhms ±1% 0.5W, 1/2W Chip Resistor 1206 (3216 Metric) Anti-Corrosive, Current Sense, Moisture Resistant Thick Film; Manufacturer: Ohmite; Tolerance: 0.25%; Temperature Coefficient: ±50ppm/°C; Resistance: 10mOhm; Part Number: LVK12R010FER; Distributor: Digikey; Distributor Part Number: 273-LVK12R010FERCT-ND; Power: 0.5W
footprint LVK12R050CER-1 (1206 Current Sense)
footprint LVK12R050CER-2 (1206 Current Sense)
pins: 1, 2, 3, 4

## LVK12R050CER
designator R?
Resistor, Current Sense 50 mOhms ±0.25% 0.5W, Moisture Resistant Thick Film; Manufacturer: Ohmite; Temperature Coefficient: ±50ppm/°C; Resistance: 50mOhm; Part Number: LVK12R050CER; Distributor: *; Distributor Part Number: *; Power: 0.5W; Tolerance: 0.25%
footprint LVK12R050CER-1 (1206 Current Sense)
footprint LVK12R050CER-2 (1206 Current Sense)
pins: 1, 2, 3, 4

## M2 Mounting Hole
designator MECH  (value not drawn)
footprint M2 Mounting Hole
footprint M2 Mounting Hole - NO VIAS (M2 Mounting Hole)
pins: 1

## M2.5 Mounting Hole
designator MECH  (value not drawn)
footprint M2.5 Mounting Hole
pins: 1

## M3 Mounting Hole
designator MECH, comment M3 MOUNTING HOLE  (value not drawn)
footprint M3 Mounting Hole
pins: 1

## M3x0.5px8mm Bolt
designator MECH?, comment M3x0.5x8  (mechanical)
M3 x 0.50p x 8mm Full Thread Metric Coarse Socket Head Cap Screw (2.5mm Key) A4-70 Stainless G316 DIN 912 / ISO 4762; Part Number: M3 x 0.50p x 8mm; Distributor: Bolt and Nut Australia; Distributor Part Number: M3 x 0.50p x 8mm
footprint M3 x 0.50p x 8mm Bolt

## M80-5T10205M1-02-331-00-000
designator J?
Harwin 2+2 Pos. Male Signal+Power Vertical Throughboard Conn. Jackscrews; Manufacturer Part Number: M80-5T10205M1-02-331-00-000; Rows: 2; Positions: 4; Max Current: 40A; Distributor Part Number: *; ComponentLink1Description: New link; ComponentLink1URL: https://www.mouser.co.uk/datasheet/2/181/M80-5T10205M1-02-331-00-000-1135657.pdf
footprint M80-5T10205M1-02-331-00-000 (Harwin 2+2 Pos. Male Signal+Power Vertical Throughboard Conn. Jackscrews)
pins: 1, 2, A, B

## M80-5000000M1-02-PM1-00-000
designator J?
2 Pos. Male SIL Vertical Throughboard Conn. Jackscrews; Manufacturer Part Number: M80-5000000M1-02-PM1-00-000; Rows: 1; Positions: 2; Max Current: 40A; Distributor Part Number: *
footprint M80-5000000M1-02-PM1-00-000 (2 Pos. Male SIL Vertical Throughboard Conn. Jackscrews)
pins: 1, 2

## M80-5000000M5-02-333-00-000
designator J?
Connector Header Through Hole, Right Angle 2 position 0.157" (4.00mm); Manufacturer: Harwin; Number of Positions: 2; Current Rating: 20A; Voltage Rating: 800V; Part Number: M80-5000000M5-02-333-00-000; Distributor: Digikey; Distributor Part Number: 952-2578-ND; Number of Rows: 1; Operating Temperature: -55°C ~ 125°C
footprint M80-5000000M5-02-333-00-000 (Harwin Datamate 2pin Power)
pins: A, B

## M80-6660442
designator J?
Connector Header Surface Mount, Right Angle 4 position 0.079" (2.00mm); Manufacturer: Harwin; Rows: 2; Current Rating: 2.2A; Part Number: M80-6660442; Positions: 2; Distributor Part Number: 952-2095-ND; Operating Temperature: -55°C ~ 125°C
footprint M80-6660442 (Harwin Datamate L-Tek Horizontal SMT)
pins: 1, 2, 3, 4

## M80-8510442
designator J?
Connector Header Through Hole, Right Angle 4 position 0.079" (2.00mm); Manufacturer: Harwin; Rows: 2; Current Rating: 2.2A; Part Number: M80-8510442; Positions: 2; Distributor Part Number: 952-1127-5-ND; Operating Temperature: -55°C ~ 125°C
footprint M80-8510442 (Harwin Datamate L-Tek 4Pin)
pins: 1, 2, 3, 4

## MCP9700T-H/LT
designator U?  Resolution: 10mV/°C
Temperature Sensor Analog, Local -40°C ~ 150°C 10mV/°C SC-70-5; Manufacturer Part Number: MCP9700T-H/LT; Operating Temperature: -40°C ~ 150°C; ComponentLink1Description: Datasheet; ComponentLink1URL: https://ww1.microchip.com/downloads/aemDocuments/documents/MSLD/ProductDocuments/DataSheets/MCP970X-Family-Data-Sheet-DS20001942.pdf; Distributor: Digikey; Distributor Part Number: MCP9700T-H/LTCT-ND
footprint SC70 5-Lead
pins: 1 N/C, 2 GND, 3 VOUT, 4 VDD, 5 N/C

## MCWR08X9530FTL
designator R?, comment Resistance: 953R  (hidden comment: Multicomp MCWR08X9530FTL)
125mW 953Ω ±1% 0805 Chip Resistor - Surface Mount RoHS; Part Number: MCWR08X9530FTL; Tolerance: 1%; Distributor Part Number: C241271; Distributor: JLCPCB; Case Code: 0805
footprint RESC0805 (Chip Resistor, 2-Leads, Body 1.00x0.50mm, IPC Medium Density)
pins: 1, 2

## MLX90641KSF-BCA-000-TU
designator U?
SENSOR TEMP 16X12 110FOV TO39; Part Number: MLX90641ESF-BCB-000-TU; Input Voltage: 3V~3.6V; Distributor: *; Distributor Part Number: *; Operating Temperature: -40C ~ 125C; ComponentLink1Description: Datasheet; ComponentLink1URL: https://www.melexis.com/-/media/files/documents/datasheets/mlx90641-datasheet-melexis.pdf
footprint MLX90641 (SENSOR TEMP 16X12 60FOV TO39)
pins: 1 SDA, 2 VDD (power), 3 GND (power), 4 SCL

## NCD0805R1
designator D?
LED Red 0805 1.6V~2.6V 130° 195mcd 25mA 615nm~630nm 630nm 65mW; Part Number: NCD0805R1; Distributor Part Number: C84256; Colour: Red; Operating Temperature: -30℃~+85℃; Distributor: JLCPCB
footprint LEDR_0805 (Generic Red LED 0805)
pins: A, K

## NCP21XM221J03RA
designator R?  Resistance: 220R
THERMISTOR NTC 220OHM 3500K 0805; Manufacturer Part Number: NCP21XM221J03RA; Tolerance: *; Case Code: 0805; Digikey Part Number: A106104CT-ND; Operating Temperature: -55C to 125C
footprint RESC0805 (Chip Resistor, 2-Leads, Body 1.00x0.50mm, IPC Medium Density)
pins: 1, 2

## NTTFS5C454NLTAG
designator Q?
N-MOSFET 40 V , 85 A, 3.8 mΩ Rds(on) @ 10 V, WDFN-8 3.3×3.3 mm, low Qg (~18 nC); Manufacturer: Onsemi; Vdss: 40V; Current - Continuous Drain (Id): 20A; Rds On (Max): 3.8mOhm; Gate Charge (Qg) (Max) @ Vgs: 18nC @ 10V; Vgs (Max): 20V; Power Dissipation (Max) (Ta): 3.2W; Part Number: NTTFS5C454NL; Distributor: *; Distributor Part Number: *; Operating Temperature: -55°C ~ 175°C; ComponentLink1Description: Datasheet; ComponentLink1URL: https://www.onsemi.com/pdf/datasheet/nttfs5c454nl-d.pdf
footprint NTTFS5C454NLTAG (8-WDFN (3.3x3.3))
pins: D, G, S

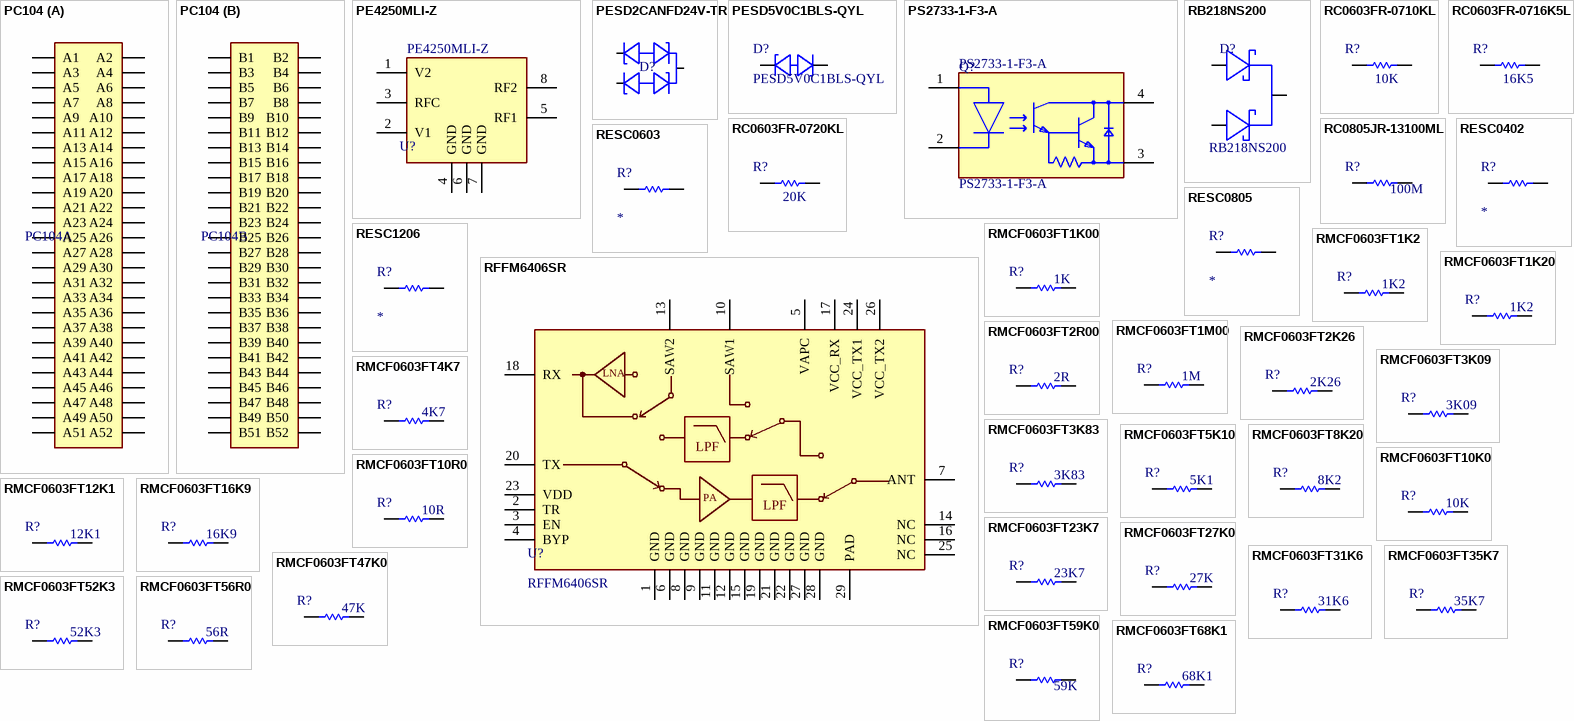
[diagram p5: symbols PC104 to RMCF0603FT68K1]

## PC104
designator PC104, comment SSQ-126-21-G-D  (value not drawn)
PC104 stack header, 2.54mm 4x26positions; Current Rating: 6.3A; Number of Positions: 52; Voltage Rating (AC): 465V; Voltage Rating (DC): 655V; Part Number: SSQ-126-21-G-D; Distributor Part Number: SSQ-126-21-G-D-ND; Distributor: Digikey; Operating Temperature: -55°C ~ 125°C; Number of Rows: 2
footprint PC104 STACK HEADER (4x26 2.54mm Header)
part A pins: A1, A2, A3, A4, A5, A6, A7, A8, A9, A10, A11, A12, A13, A14, A15, A16, A17, A18, A19, A20, A21, A22, A23, A24, A25, A26, A27, A28, A29, A30, A31, A32, A33, A34, A35, A36, A37, A38, A39, A40, A41, A42, A43, A44, A45, A46, A47, A48, A49, A50, A51, A52
part B pins: B1, B2, B3, B4, B5, B6, B7, B8, B9, B10, B11, B12, B13, B14, B15, B16, B17, B18, B19, B20, B21, B22, B23, B24, B25, B26, B27, B28, B29, B30, B31, B32, B33, B34, B35, B36, B37, B38, B39, B40, B41, B42, B43, B44, B45, B46, B47, B48, B49, B50, B51, B52

## PE4250MLI-Z
designator U?  Part Number: PE4250MLI-Z
RF Switch IC General Purpose SPDT 3 GHz 50Ohm 8-MSOP; Frequency Range: 10MHz ~ 3GHz; Isolation: 40dB; Insertion Loss: 0.75dB; Voltage Supply: 3V ~ 3.6V, 4.5V ~ 5.5V; Impedance: 50ohm; Operating Temperature: -40°C ~ 85°C; ComponentLink1Description: Datasheet; ComponentLink1URL: https://www.psemi.com/pdf/datasheets/pe4250ds.pdf
footprint MS8-8LEAD
pins: 1 V2, 2 V1, 3 RFC, 4 GND, 5 RF1, 6 GND, 7 GND, 8 RF2

## PESD2CANFD24V-TR
designator D?
42V Clamp 2.6A (8/20µs) Ipp Tvs Diode Surface Mount TO-236AB; Part Number: PESD2CANFD24V-TR; Voltage - Reverse Standoff: 24V; Voltage - Breakdown: 25.5V; Qualification: AEC-Q101; Voltage - Clamping (Max): 42V; Operating Temperature: -55°C ~ 175°C; Distributor: Digikey
footprint SOT23-3 IC (Diodes Incorporated SOT-23 land pattern with IC pin designators)
pins: 1, 2, 3

## PESD5V0C1BLS-QYL
designator D?
5.4V (Typ) Clamp 6.5A (8/20µs) Ipp Tvs Diode Surface Mount DFN1006BD-2; Voltage - Reverse Standoff (Typ): 5V (Max); Voltage - Breakdown (Min): 7.5V; Part Number: PESD5V0C1BLS-QYL; Voltage - Clamping (Max) @ Ipp: 5.4V (Typ); Operating Temperature: -55C ~ 150C; ComponentLink1Description: Datasheet; ComponentLink1URL: https://assets.nexperia.com/documents/data-sheet/PESD5V0C1BLS-Q.pdf; Distributor: Digikey; Distributor Part Number: 1727-PESD5V0C1BLS-QYLCT-ND
footprint PESD5V0C1BLS-Q (SOD882BD)
pins: 1, 2

## PS2733-1-F3-A
designator Q?
Optocoupler, Darlington, 2.5Kv, Sop-4 Rohs Compliant: Yes |Renesas PS2733-1-F3-A; Manufacturer Lifecycle Status: ACTIVE; Max Power Dissipation: 230mW; Rise Time: 100µs; Forward Voltage: 1.4V; Current Transfer Ratio: 4000%; Number of Channels: 1; Output Current per Channel: 150mA; Collector Emitter Voltage (VCEO): 350V; Reverse Voltage: 6V; RAM Size: 6kB; Forward Current: 50mA; Collector Emitter Saturation Voltage: 1V; Packaging: Tape & Reel (TR); Lead Free: Lead Free; Power Dissipation: 230mW; Height: 2.3mm; Lifecycle Status: Production; Max Operating Temperature: 100°C; ComponentLink1URL: http://www.renesas.com; Number of Circuits: 1; Mount: Surface Mount; Fall Time: 100µs; Isolation Voltage: 2.5kV; ComponentLink2URL: https://octopart.com/cad-content/api/get-model-datasheet/15189/22861630; Number of Elements: 1; Number of Pins: 4; Min Operating Temperature: -55°C; ComponentLink2Description: Datasheet URL; HelpURL: https://octopart.com/cad-content/api/get-model-datasheet/15189/22861630; Max Collector Current: 150mA; ComponentLink1Description: Manufacturer's Website; Output Voltage: 350V; Reverse Breakdown Voltage: 6V; Case/Package: SOP; RoHS: Compliant; Manufacturer Part Number: PS2733-1-F3-A
footprint PS2733-1 (Transistor Output Optocouplers Hi Col-Emit Dar 1-Ch)
pins: 1 A, 2 C, 3 E, 4 C

## RB218NS200
designator D?  Manufacturer Part Number: RB218NS200
Diode Array 1 Pair Common Cathode 200 V 20A Surface Mount TO-263-3, D2PAK (2 Leads + Tab), TO-263AB; Vr (Max): 200V; Ir: 10uA; Ifsm: 100A; Distributor Part Number: *; Package: TO-263; Operating Temperature: -55C-150C
footprint TO-263 D2PAK
pins: 1, 2, 3

## RC0603FR-0710KL
designator R?  Resistance: 10K  (hidden comment: RC0603FR-0710KL)
10 kOhms ±1% 0.1W, 1/10W Chip Resistor 0603 (1608 Metric) Moisture Resistant Thick Film; Manufacturer Part Number: RC0603FR-0710KL; Tolerance: 1%; Distributor Part Number: 311-10.0KHRCT-ND; Distributor: Digikey; Case Code: 0603
footprint RESC0603 (Chip Resistor, 2-Leads, Body 1.60x0.80mm, IPC Medium Density)
pins: 1, 2

## RC0603FR-0716K5L
designator R?  Resistance: 16K5  (hidden comment: RC0603FR-0716K5L)
16.5 kOhms ±1% 0.1W, 1/10W Chip Resistor 0603 (1608 Metric) Moisture Resistant Thick Film; Manufacturer Part Number: RC0603FR-0720KL; Tolerance: 1%; Distributor Part Number: 311-16.5KHRCT-ND; Distributor: Digikey; Case Code: 0603
footprint RESC0603 (Chip Resistor, 2-Leads, Body 1.60x0.80mm, IPC Medium Density)
pins: 1, 2

## RC0603FR-0720KL
designator R?, comment Resistance: 20K  (hidden comment: RC0603FR-0710KL)
20 kOhms ±1% 0.1W, 1/10W Chip Resistor 0603 (1608 Metric) Moisture Resistant Thick Film; Manufacturer Part Number: RC0603FR-0720KL; Tolerance: 1%; Distributor Part Number: 311-20.0KHRCT-ND; Distributor: Digikey; Case Code: 0603
footprint RESC0603 (Chip Resistor, 2-Leads, Body 1.60x0.80mm, IPC Medium Density)
pins: 1, 2

## RC0805JR-13100ML
designator R?  Resistance: 100M  (hidden comment: RC0805JR-13100ML)
100 MOhms ±5% 0.125W, 1/8W Chip Resistor 0805 (2012 Metric) Moisture Resistant Thick Film; Tolerance: 1%; Manufacturer Part Number: RC0805JR-13100ML; Distributor Part Number: 13-RC0805JR-13100MLCT-ND; Distributor: Digikey; Case Code: 0805
footprint RESC0805 (Chip Resistor, 2-Leads, Body 1.00x0.50mm, IPC Medium Density)
pins: 1, 2

## RESC0402
designator R?
Part Number: *; Tolerance: *; Distributor Part Number: *; Distributor: *; Case Code: 0402; Manufacturer: *; Resistance: *
footprint RESC0402 (Chip Resistor, 2-Leads, Body 1.00x0.50mm, IPC Medium Density)
pins: 1, 2

## RESC0603
designator R?
Part Number: *; Tolerance: *; Distributor Part Number: *; Distributor: *; Case Code: 0603; Manufacturer: *; Resistance: *
footprint RESC0603 (Chip Resistor, 2-Leads, Body 1.60x0.80mm, IPC Medium Density)
pins: 1, 2

## RESC0805
designator R?
Part Number: *; Tolerance: *; Distributor Part Number: *; Distributor: *; Case Code: 0805; Manufacturer: *; Resistance: *
footprint RESC0805 (Chip Resistor, 2-Leads, Body 1.00x0.50mm, IPC Medium Density)
pins: 1, 2

## RESC1206
designator R?
Part Number: *; Tolerance: *; Distributor Part Number: *; Distributor: *; Case Code: 1206; Manufacturer: *; Resistance: *
footprint RESC1206 (Chip Resistor, 2-Leads, Body 3.2x1.60mm, IPC Medium Density)
pins: 1, 2

## RFFM6406SR
designator U?
RF Front End 408-455MHz FEM 400MHz ISM Band; Operating Frequency: 408MHz to 455MHz; Noise Figure: 1.9dB; Operating Supply Voltage: 2.5V to 4.2V; Operating Supply Current: 770mA; Gain: 15dB, 25dB; Part Number: RFFM6406SR; Operating Temperature: -40C ~ 85C
footprint RFFM6406SR (RFFM6406SR - LGA-28)
pins: 1 GND, 2 TR, 3 EN, 4 BYP, 5 VAPC, 6 GND, 7 ANT, 8 GND, 9 GND, 10 SAW1, 11 GND, 12 GND, 13 SAW2, 14 NC, 15 GND, 16 NC, 17 VCC_RX, 18 RX, 19 GND, 20 TX, 21 GND, 22 GND, 23 VDD, 24 VCC_TX1, 25 NC, 26 VCC_TX2, 27 GND, 28 GND, 29 PAD
text: LNA; LPF; PA

## RMCF0603FT1K00
designator R?  Resistance: 1K  (hidden comment: RMCF0603FT1K00)
1 kOhms ±1% 0.1W, 1/10W Chip Resistor 0603 (1608 Metric) Automotive AEC-Q200 Thick Film; Part Number: RMCF0603FT1K00; Tolerance: 1%; Distributor: Digikey; Distributor Part Number: RMCF0603FT1K00CT-ND; Case Code: 0603
footprint RESC0603 (Chip Resistor, 2-Leads, Body 1.60x0.80mm, IPC Medium Density)
pins: 1, 2

## RMCF0603FT1K2
designator R?  Resistance: 1K2  (hidden comment: RMCF0603FT1K2)
1.2 kOhms ±1% 0.1W, 1/10W Chip Resistor 0603 (1608 Metric) Automotive AEC-Q200 Thick Film; Part Number: RMCF0603FT1K2; Tolerance: 1%; Distributor: Digikey; Distributor Part Number: RMCF0603FT1K20CT-ND; Case Code: 0603
footprint RESC0603 (Chip Resistor, 2-Leads, Body 1.60x0.80mm, IPC Medium Density)
pins: 1, 2

## RMCF0603FT1K20
designator R?  Resistance: 1K2  (hidden comment: RMCF0603FT1K20)
1.2 kOhms ±1% 0.1W, 1/10W Chip Resistor 0603 (1608 Metric) Automotive AEC-Q200 Thick Film; Part Number: RMCF0603FT1K20; Tolerance: 1%; Distributor: Digikey; Distributor Part Number: RMCF0603FT1K20CT-ND; Case Code: 0603
footprint RESC0603 (Chip Resistor, 2-Leads, Body 1.60x0.80mm, IPC Medium Density)
pins: 1, 2

## RMCF0603FT1M00
designator R?  Resistance: 1M  (hidden comment: RMCF0603FT1M00)
1 MOhms ±1% 0.1W, 1/10W Chip Resistor 0603 (1608 Metric) Automotive AEC-Q200 Thick Film; Part Number: RMCF0603FT1M00; Tolerance: 1%; Distributor: Digikey; Distributor Part Number: RMCF0603FT1M00CT-ND; Case Code: 0603
footprint RESC0603 (Chip Resistor, 2-Leads, Body 1.60x0.80mm, IPC Medium Density)
pins: 1, 2

## RMCF0603FT2K26
designator R?  Resistance: 2K26  (hidden comment: RMCF0603FT2K26)
2.26 kOhms ±1% 0.1W, 1/10W Chip Resistor 0603 (1608 Metric) Automotive AEC-Q200 Thick Film; Part Number: RMCF0603FT2K26; Tolerance: 1%; Distributor: Digikey; Distributor Part Number: RMCF0603FT2K26CT-ND; Case Code: 0603
footprint RESC0603 (Chip Resistor, 2-Leads, Body 1.60x0.80mm, IPC Medium Density)
pins: 1, 2

## RMCF0603FT2R00
designator R?  Resistance: 2R  (hidden comment: RMCF0603FT2R00)
2 Ohms ±1% 0.1W, 1/10W Chip Resistor 0603 (1608 Metric) Automotive AEC-Q200 Thick Film±1% 0.1W, 1/10W Chip Resistor 0603 (1608 Metric) Automotive AEC-Q200 Thick Film; Part Number: RMCF0603FT2R00; Tolerance: 1%; Distributor: Digikey; Distributor Part Number: RMCF0603FT2R00CT-ND; Case Code: 0603
footprint RESC0603 (Chip Resistor, 2-Leads, Body 1.60x0.80mm, IPC Medium Density)
pins: 1, 2

## RMCF0603FT3K09
designator R?  Resistance: 3K09  (hidden comment: RMCF0603FT3K09)
3.09 kOhms ±1% 0.1W, 1/10W Chip Resistor 0603 (1608 Metric) Automotive AEC-Q200 Thick Film; Part Number: RMCF0603FT3K09; Tolerance: 1%; Distributor: Digikey; Distributor Part Number: RMCF0603FT3K09CT-ND; Case Code: 0603
footprint RESC0603 (Chip Resistor, 2-Leads, Body 1.60x0.80mm, IPC Medium Density)
pins: 1, 2

## RMCF0603FT3K83
designator R?  Resistance: 3K83  (hidden comment: RMCF0603FT3K83)
3.83 kOhms ±1% 0.1W, 1/10W Chip Resistor 0603 (1608 Metric) Automotive AEC-Q200 Thick Film; Part Number: RMCF0603FT3K83; Tolerance: 1%; Distributor: Digikey; Distributor Part Number: RMCF0603FT3K83CT-ND; Case Code: 0603
footprint RESC0603 (Chip Resistor, 2-Leads, Body 1.60x0.80mm, IPC Medium Density)
pins: 1, 2

## RMCF0603FT4K7
designator R?  Resistance: 4K7  (hidden comment: RMCF0603FT4K7)
4.7 kOhms ±1% 0.1W, 1/10W Chip Resistor 0603 (1608 Metric) Automotive AEC-Q200 Thick Film; Part Number: RMCF0603FT4K7; Tolerance: 1%; Distributor: Digikey; Distributor Part Number: RMCF0603FT4K70CT-ND; Case Code: 0603
footprint RESC0603 (Chip Resistor, 2-Leads, Body 1.60x0.80mm, IPC Medium Density)
pins: 1, 2

## RMCF0603FT5K10
designator R?  Resistance: 5K1  (hidden comment: RMCF0603FT5K10)
5.1 kOhms ±1% 0.1W, 1/10W Chip Resistor 0603 (1608 Metric) Automotive AEC-Q200 Thick Film; Part Number: RMCF0603FT5K10; Tolerance: 1%; Distributor: Digikey; Distributor Part Number: RMCF0603FT5K10CT-ND; Case Code: 0603
footprint RESC0603 (Chip Resistor, 2-Leads, Body 1.60x0.80mm, IPC Medium Density)
pins: 1, 2

## RMCF0603FT8K20
designator R?  Resistance: 8K2  (hidden comment: RMCF0603FT8K20)
8.2 kOhms ±1% 0.1W, 1/10W Chip Resistor 0603 (1608 Metric) Automotive AEC-Q200 Thick Film; Part Number: RMCF0603FT8K20; Tolerance: 1%; Distributor: Digikey; Distributor Part Number: RMCF0603FT8K20CT-ND; Case Code: 0603
footprint RESC0603 (Chip Resistor, 2-Leads, Body 1.60x0.80mm, IPC Medium Density)
pins: 1, 2

## RMCF0603FT10K0
designator R?  Resistance: 10K  (hidden comment: RMCF0603FT10K0)
10 kOhms ±1% 0.1W, 1/10W Chip Resistor 0603 (1608 Metric) Automotive AEC-Q200 Thick Film; Part Number: RMCF0603FT10K0; Tolerance: 1%; Distributor: Digikey; Distributor Part Number: RMCF0603FT10K0CT-ND; Case Code: 0603
footprint RESC0603 (Chip Resistor, 2-Leads, Body 1.60x0.80mm, IPC Medium Density)
pins: 1, 2

## RMCF0603FT10R0
designator R?  Resistance: 10R  (hidden comment: RMCF0603FT10R0)
10 Ohms ±1% 0.1W, 1/10W Chip Resistor 0603 (1608 Metric) Automotive AEC-Q200 Thick Film; Part Number: RMCF0603FT10R0; Tolerance: 1%; Distributor: Digikey; Distributor Part Number: RMCF0603FT10R0CT-ND; Case Code: 0603
footprint RESC0603 (Chip Resistor, 2-Leads, Body 1.60x0.80mm, IPC Medium Density)
pins: 1, 2

## RMCF0603FT12K1
designator R?  Resistance: 12K1  (hidden comment: RMCF0603FT12K1)
12.1 kOhms ±1% 0.1W, 1/10W Chip Resistor 0603 (1608 Metric) Automotive AEC-Q200 Thick Film; Part Number: RMCF0603FT12K1; Tolerance: 1%; Distributor: Digikey; Distributor Part Number: RMCF0603FT12K1CT-ND; Case Code: 0603
footprint RESC0603 (Chip Resistor, 2-Leads, Body 1.60x0.80mm, IPC Medium Density)
pins: 1, 2

## RMCF0603FT16K9
designator R?  Resistance: 16K9  (hidden comment: RMCF0603FT16K9)
16.9 kOhms ±1% 0.1W, 1/10W Chip Resistor 0603 (1608 Metric) Automotive AEC-Q200 Thick Film; Part Number: RMCF0603FT16K9; Tolerance: 1%; Distributor: Digikey; Distributor Part Number: RMCF0603FT16K9CT-ND; Case Code: 0603
footprint RESC0603 (Chip Resistor, 2-Leads, Body 1.60x0.80mm, IPC Medium Density)
pins: 1, 2

## RMCF0603FT23K7
designator R?  Resistance: 23K7  (hidden comment: RMCF0603FT23K7)
23.7 kOhms ±1% 0.1W, 1/10W Chip Resistor 0603 (1608 Metric) Automotive AEC-Q200 Thick Film; Part Number: RMCF0603FT23K7; Tolerance: 1%; Distributor: Digikey; Distributor Part Number: RMCF0603FT23K7CT-ND; Case Code: 0603
footprint RESC0603 (Chip Resistor, 2-Leads, Body 1.60x0.80mm, IPC Medium Density)
pins: 1, 2

## RMCF0603FT27K0
designator R?  Resistance: 27K  (hidden comment: RMCF0603FT27K0)
27 kOhms ±1% 0.1W, 1/10W Chip Resistor 0603 (1608 Metric) Automotive AEC-Q200 Thick Film; Part Number: RMCF0603FT27K0; Tolerance: 1%; Distributor: Digikey; Distributor Part Number: RMCF0603FT27K0CT-ND; Case Code: 0603
footprint RESC0603 (Chip Resistor, 2-Leads, Body 1.60x0.80mm, IPC Medium Density)
pins: 1, 2

## RMCF0603FT31K6
designator R?  Resistance: 31K6  (hidden comment: RMCF0603FT31K6)
31.6 kOhms ±1% 0.1W, 1/10W Chip Resistor 0603 (1608 Metric) Automotive AEC-Q200 Thick Film; Part Number: RMCF0603FT31K6; Tolerance: 1%; Distributor: Digikey; Distributor Part Number: RMCF0603FT31K6CT-ND; Case Code: 0603
footprint RESC0603 (Chip Resistor, 2-Leads, Body 1.60x0.80mm, IPC Medium Density)
pins: 1, 2

## RMCF0603FT35K7
designator R?  Resistance: 35K7  (hidden comment: RMCF0603FT35K7)
35.7 kOhms ±1% 0.1W, 1/10W Chip Resistor 0603 (1608 Metric) Automotive AEC-Q200 Thick Film; Part Number: RMCF0603FT35K7; Tolerance: 1%; Distributor: Digikey; Distributor Part Number: RMCF0603FT35K7CT-ND; Case Code: 0603
footprint RESC0603 (Chip Resistor, 2-Leads, Body 1.60x0.80mm, IPC Medium Density)
pins: 1, 2

## RMCF0603FT47K0
designator R?  Resistance: 47K  (hidden comment: RMCF0603FT47K0)
47 kOhms ±1% 0.1W, 1/10W Chip Resistor 0603 (1608 Metric) Automotive AEC-Q200 Thick Film; Part Number: RMCF0603FT47K0; Tolerance: 1%; Distributor: Digikey; Distributor Part Number: RMCF0603FT47K0CT-ND; Case Code: 0603
footprint RESC0603 (Chip Resistor, 2-Leads, Body 1.60x0.80mm, IPC Medium Density)
pins: 1, 2